# Altium footprint library GRITS Pi Hat.PcbLib: 3 footprints
Each footprint in its own frame and in the unit in brackets; x right, y up, seen from the top. Pads: shape width x height; smd on the part's side, far side on the other; paste and mask are expansions set on the pad; w line width, h text height; cw(c..) or ccw(c..) is an arc to the next point about the centre after c.
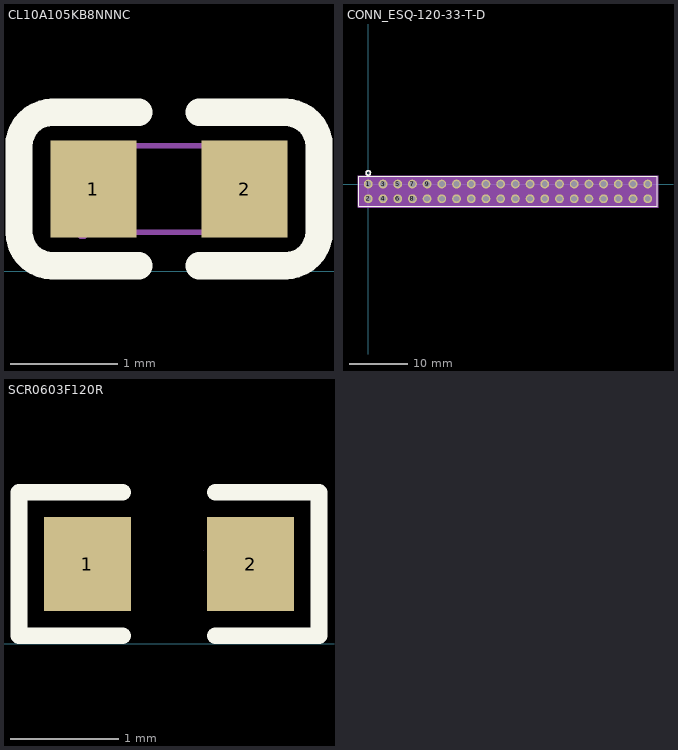
[diagram p0: the footprints below, top view; thin cyan lines are the x and y axes]

## CL10A105KB8NNNC [mm] "50V 1uF X5R ±10% 0603 Multilayer Ceramic Capacitors MLCC - SMD/SMT ROHS"
pads (2):
  rect 0.8x0.9 smd: 1(1.013,0.762) 2(2.413,0.762)
Top Overlay:
  lines w0.254: 1.433,0.052 0.633,0.052 cw(c0.633,0.362) 0.323,0.362 0.323,1.162 cw(c0.633,1.162) 0.633,1.472 1.433,1.472 ; 1.993,0.052 2.793,0.052 ccw(c2.793,0.362) 3.103,0.362 3.103,1.162 ccw(c2.793,1.162) 2.793,1.472 1.993,1.472
Mechanical 15:
  region: 0.973,0.362 0.973,0.387 0.938,0.422 0.888,0.422 0.853,0.387 0.853,0.362 0.853,0.337 0.888,0.302 0.938,0.302 0.973,0.337
  region: 0.913,0.362 0.913,1.162 1.213,1.162 1.213,0.362
  region: 2.513,0.362 2.513,1.162 2.213,1.162 2.213,0.362
  lines w0.051: 0.913,0.362 0.913,1.162 2.513,1.162 2.513,0.362 0.913,0.362

## CONN_ESQ-120-33-T-D [mil]
pads (40):
  round 60 hole 40 paste-99999 mask+0: 1(0,0) 2(0,-100) 3(100,0) 4(100,-100) 5(200,0) 6(200,-100) 7(300,0) 8(300,-100) 9(400,0) 10(400,-100) 11(500,0) 12(500,-100) 13(600,0) 14(600,-100) 15(700,0) 16(700,-100) 17(800,0) 18(800,-100) 19(900,0) 20(900,-100) 21(1000,0) 22(1000,-100) 23(1100,0) 24(1100,-100) 25(1200,0) 26(1200,-100) 27(1300,0) 28(1300,-100) 29(1400,0) 30(1400,-100) 31(1500,0) 32(1500,-100) 33(1600,0) 34(1600,-100) 35(1700,0) 36(1700,-100) 37(1800,0) 38(1800,-100) 39(1900,0) 40(1900,-100)
Top Overlay:
  circle w10: c0,75 r15
  lines w6: -65,-152.5 -65,52.5 1965,52.5 1965,-152.5 -65,-152.5
Bottom Overlay:
  circle w0: c0,75 r15
Mechanical 13:
  circle w10: c0,75 r15
  lines w1: -60,-147.5 -60,47.5 1960,47.5 1960,-147.5 -60,-147.5
Mechanical 15:
  region: 1970,57.5 -70,57.5 -70,-157.5 1970,-157.5
  lines w6: -70,-157.5 1970,-157.5 1970,57.5 -70,57.5 -70,-157.5
3D body "esq-120-33-t-d.stp": height 635.5, standoff -89.5, extent -60,-150 1960,50

## SCR0603F120R [mil] "100mW Thick Film Resistors 75V ±1% 120Ω 0603 Chip Resistor - Surface Mount ROHS"
pads (2):
  rect 31.75x34.02 smd paste-3937.01 mask+2: 1(37.88,29.01) 2(97.19,29.01)
Top Overlay:
  lines w6: 50.75,3 13,3 13,55.02 50.75,55.02 ; 84.31,3 122.06,3 122.06,55.02 84.31,55.02
Top Paste:
  region: 114.58,46.72 83.08,46.72 81.11,44.76 81.11,35.78 95.68,35.78 95.68,22.79 81.11,22.79 81.11,13.26 83.08,11.29 114.58,11.29 116.55,13.26 116.55,44.76
  region: 20.48,11.29 51.98,11.29 53.95,13.26 53.95,22.24 39.38,22.24 39.38,35.23 53.95,35.23 53.95,44.76 51.98,46.73 20.48,46.73 18.52,44.76 18.52,13.26
Mechanical 15:
  lines w0.1: 80.02,34 80.04,34.02